# EAGLE library part HX711_AMPLIFIER (library Boards and Stuff v20)
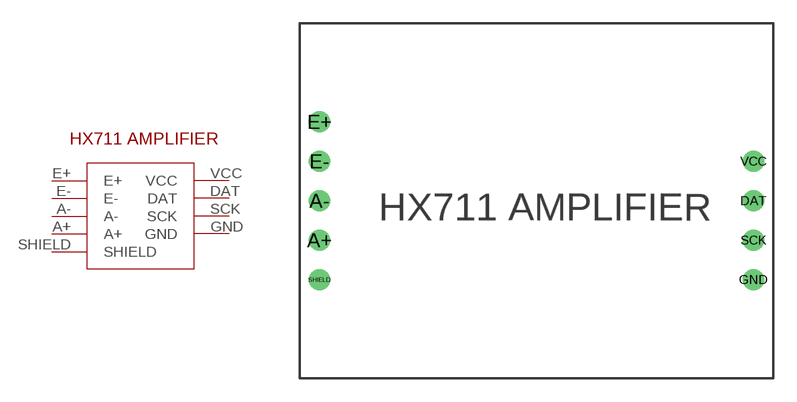
[diagram p1: symbol with the pads of HX711_AMPLIFIER; footprint HX711_AMPLIFIER]

Designator prefix -

## HX711_AMPLIFIER  [HX711_AMPLIFIER]
A+  A+
A-  A-
DAT  DAT
E+  E+
E-  E-
GND  GND
SCK  SCK
SHIELD  SHIELD
VCC  VCC

## Footprint HX711_AMPLIFIER (pad centres in mm)
drill 0.85: A+ 1.27,8.89; A- 1.27,11.43; DAT 29.21,11.43; E+ 1.27,16.51; E- 1.27,13.97; GND 29.21,6.35; SCK 29.21,8.89; SHIELD 1.27,6.35; VCC 29.21,13.97